# EAGLE library part SD_CARD (library PP_Connectors)
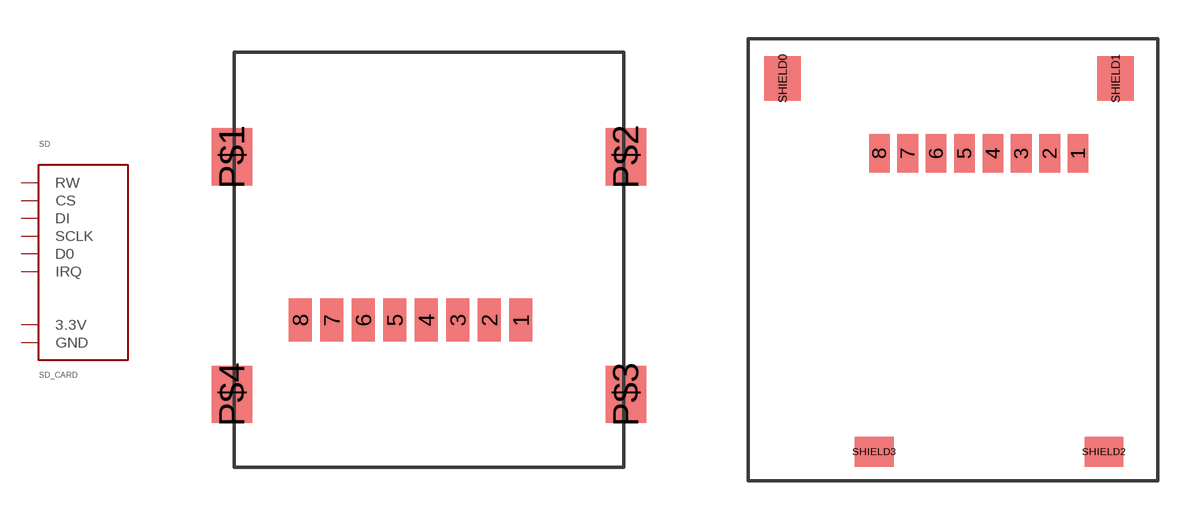
[diagram p5: symbol with the pads of 47219-2001; footprints 47219-2001, 502570-0893]

Designator prefix SD

## SD_CARD47219-2001  [47219-2001]
1  RW
2  CS
3  DI
4  3.3V
5  SCLK
6  GND
7  D0
8  IRQ
P$1  GND
P$2  GND
P$3  GND
P$4  GND

## SD_CARD502570-0893  [502570-0893]
1  IRQ
2  D0
3  GND
4  SCLK
5  3.3V
6  DI
7  CS
8  RW
SHIELD0  GND
SHIELD1  GND
SHIELD2  GND
SHIELD3  GND

## SD_CARDSD-RSMT-2-MQ  [SD-RSMT-2-MQ]
1  CS
2  DI
3  GND
4  3.3V
5  SCLK
6  GND
7  D0
8  IRQ
9  RW
GND_1  GND
GND_2  GND

## Footprint 47219-2001 (pad centres in mm)
smd 0.8 x 1.5: 1 7.7,0; 2 6.6,0; 3 5.5,0; 4 4.4,0; 5 3.3,0; 6 2.2,0; 7 1.1,0; 8 0,0
smd 1.4 x 2: P$1 -2.38,5.7; P$2 11.37,5.7; P$3 11.37,-2.6; P$4 -2.38,-2.6

## Footprint 502570-0893 (pad centres in mm)
smd 0.8 x 1.5: 1 7.7,0; 2 6.6,0; 3 5.5,0; 4 4.4,0; 5 3.3,0; 6 2.2,0; 7 1.1,0; 8 0,0
smd 1.4 x 1.73: SHIELD0 -3.75,2.9; SHIELD1 9.15,2.9
smd 1.5 x 1.15: SHIELD2 8.7,-11.575; SHIELD3 -0.2,-11.575

## Footprint SD-RSMT-2-MQ (pad centres in mm)
smd 1 x 1.5: 1 6.88,0; 2 4.38,0; 3 1.88,0; 4 -0.62,0; 5 -3.12,0; 6 -5.62,0; 7 -8.05,0; 8 -9.75,0; 9 9.38,0
smd 0.7 x 1.5: CARD_DETECT -11.05,0; WP -12.25,0
smd 2 x 3: GND_1 -14.28,-27.75; GND_2 15.82,-27.75
hole 1.6 at 9.5,-2.8
hole 1.1 at -11.5,-2.8